# EAGLE library part HM78VS (library con-subd)
SUB-D
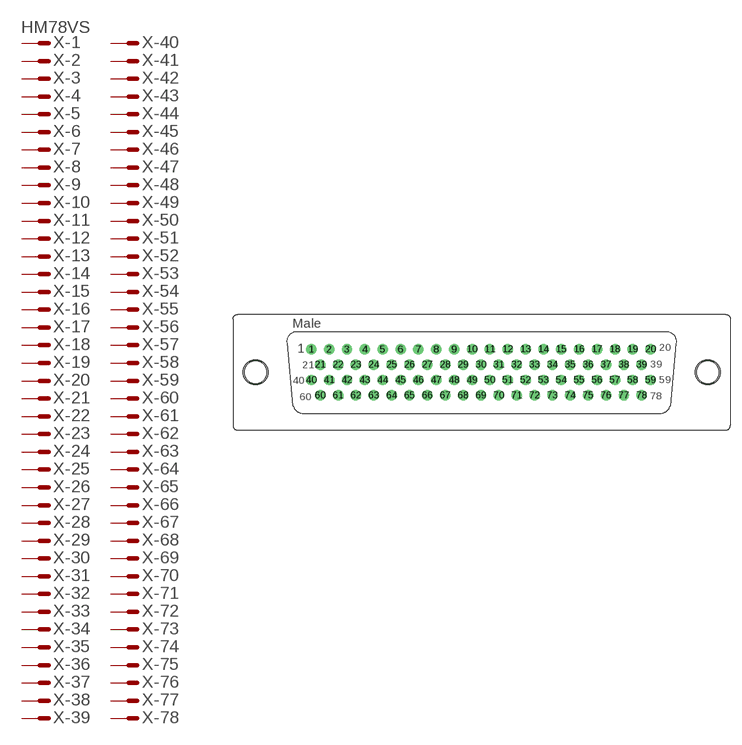
[diagram p55: symbol with the pads of HDM78V; footprint HDM78V]

Designator prefix X; gates -1=MV -2=M -3=M -4=M -5=M -6=M -7=M -8=M -9=M -10=M -11=M -12=M -13=M -14=M -15=M -16=M -17=M -18=M -19=M -20=M -21=M -22=M -23=M -24=M -25=M -26=M -27=M -28=M -29=M -30=M -31=M -32=M -33=M -34=M -35=M -36=M -37=M -38=M -39=M -40=M -41=M -42=M -43=M -44=M -45=M -46=M -47=M -48=M -49=M -50=M -51=M -52=M -53=M -54=M -55=M -56=M -57=M -58=M -59=M -60=M -61=M -62=M -63=M -64=M -65=M -66=M -67=M -68=M -69=M -70=M -71=M -72=M -73=M -74=M -75=M -76=M -77=M -78=M

## HM78VS (OC_FARNELL: unknown; OC_NEWARK: unknown)  [HDM78V]
1  -1:M  pas
2  -2:M  pas
3  -3:M  pas
4  -4:M  pas
5  -5:M  pas
6  -6:M  pas
7  -7:M  pas
8  -8:M  pas
9  -9:M  pas
10  -10:M  pas
11  -11:M  pas
12  -12:M  pas
13  -13:M  pas
14  -14:M  pas
15  -15:M  pas
16  -16:M  pas
17  -17:M  pas
18  -18:M  pas
19  -19:M  pas
20  -20:M  pas
21  -21:M  pas
22  -22:M  pas
23  -23:M  pas
24  -24:M  pas
25  -25:M  pas
26  -26:M  pas
27  -27:M  pas
28  -28:M  pas
29  -29:M  pas
30  -30:M  pas
31  -31:M  pas
32  -32:M  pas
33  -33:M  pas
34  -34:M  pas
35  -35:M  pas
36  -36:M  pas
37  -37:M  pas
38  -38:M  pas
39  -39:M  pas
40  -40:M  pas
41  -41:M  pas
42  -42:M  pas
43  -43:M  pas
44  -44:M  pas
45  -45:M  pas
46  -46:M  pas
47  -47:M  pas
48  -48:M  pas
49  -49:M  pas
50  -50:M  pas
51  -51:M  pas
52  -52:M  pas
53  -53:M  pas
54  -54:M  pas
55  -55:M  pas
56  -56:M  pas
57  -57:M  pas
58  -58:M  pas
59  -59:M  pas
60  -60:M  pas
61  -61:M  pas
62  -62:M  pas
63  -63:M  pas
64  -64:M  pas
65  -65:M  pas
66  -66:M  pas
67  -67:M  pas
68  -68:M  pas
69  -69:M  pas
70  -70:M  pas
71  -71:M  pas
72  -72:M  pas
73  -73:M  pas
74  -74:M  pas
75  -75:M  pas
76  -76:M  pas
77  -77:M  pas
78  -78:M  pas

## Footprint HDM78V (pad centres in mm)
SUB-D
drill 0.9: 1 -23.024,3.12; 2 -20.611,3.12; 3 -18.198,3.12; 4 -15.785,3.12; 5 -13.372,3.12; 6 -10.959,3.12; 7 -8.546,3.12; 8 -6.133,3.12; 9 -3.72,3.12; 10 -1.307,3.12; 11 1.106,3.12; 12 3.519,3.12; 13 5.932,3.12; 14 8.345,3.12; 15 10.758,3.12; 16 13.171,3.12; 17 15.584,3.12; 18 17.997,3.12; 19 20.41,3.12; 20 22.823,3.12; 21 -21.817,1.04; 22 -19.404,1.04; 23 -16.991,1.04; 24 -14.578,1.04; 25 -12.165,1.04; 26 -9.752,1.04; 27 -7.339,1.04; 28 -4.926,1.04; 29 -2.513,1.04; 30 -0.1,1.04; 31 2.313,1.04; 32 4.726,1.04; 33 7.139,1.04; 34 9.552,1.04; 35 11.965,1.04; 36 14.378,1.04; 37 16.791,1.04; 38 19.204,1.04; 39 21.617,1.04; 40 -23.024,-1.04; 41 -20.611,-1.04; 42 -18.198,-1.04; 43 -15.785,-1.04; 44 -13.372,-1.04; 45 -10.959,-1.04; 46 -8.546,-1.04; 47 -6.133,-1.04; 48 -3.72,-1.04; 49 -1.307,-1.04; 50 1.106,-1.04; 51 3.519,-1.04; 52 5.932,-1.04; 53 8.345,-1.04; 54 10.758,-1.04; 55 13.171,-1.04; 56 15.584,-1.04; 57 17.997,-1.04; 58 20.41,-1.04; 59 22.823,-1.04; 60 -21.817,-3.12; 61 -19.404,-3.12; 62 -16.991,-3.12; 63 -14.578,-3.12; 64 -12.165,-3.12; 65 -9.752,-3.12; 66 -7.339,-3.12; 67 -4.926,-3.12; 68 -2.513,-3.12; 69 -0.1,-3.12; 70 2.313,-3.12; 71 4.726,-3.12; 72 7.139,-3.12; 73 9.552,-3.12; 74 11.965,-3.12; 75 14.378,-3.12; 76 16.791,-3.12; 77 19.204,-3.12; 78 21.617,-3.12
hole 3 at -30.55,0
hole 3 at 30.55,0